# Altium footprint library TO.PcbLib: 8 footprints
Each footprint in its own frame and in the unit in brackets; x right, y up, seen from the top. Pads: shape width x height; smd on the part's side, far side on the other; paste and mask are expansions set on the pad; w line width, h text height; cw(c..) or ccw(c..) is an arc to the next point about the centre after c.
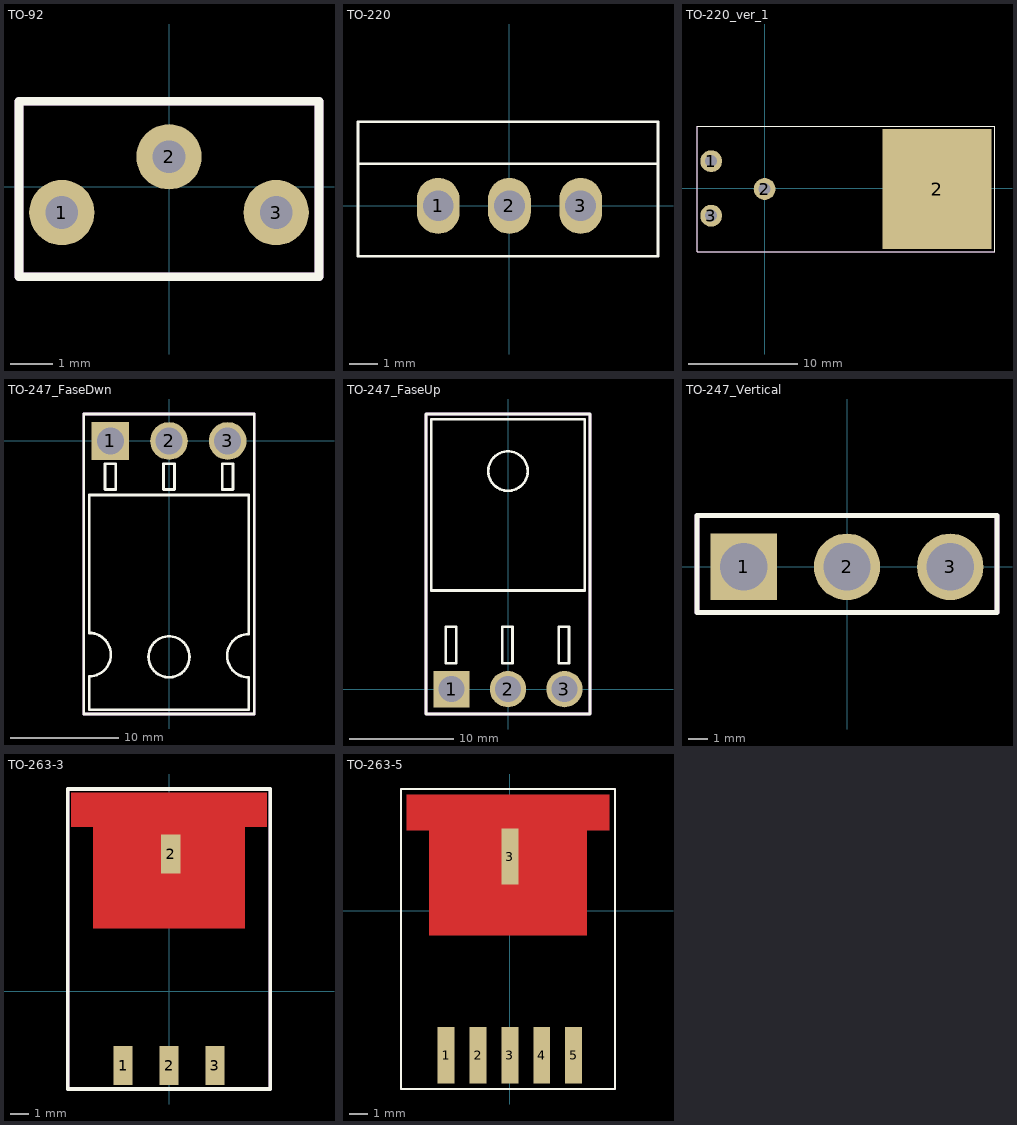
[diagram p0: the footprints below, top view; thin cyan lines are the x and y axes]

## TO-92 [mil]
pads (3):
  round 60 hole 30: 1(-98.43,-23.62) 2(0,27.56) 3(98.43,-23.62)
Top Overlay:
  lines w7.87: -137.8,-82.68 -137.8,78.74 137.8,78.74 137.8,-82.68 -137.8,-82.68
TopAssy:
  lines w7.87: -137.8,-82.68 -137.8,78.74 137.8,78.74 137.8,-82.68 -137.8,-82.68
  text ".Designator" at -19.68,-19.68 h60
3D body "TO-92B.step": height 288.98, standoff -27.56, extent -111.81,-78.74 111.82,70.87

## TO-220 [mm]
pads (3):
  oval 1.524x2 hole 1.1: 1(-2.54,0) 2(0,0) 3(2.54,0)
Top Overlay:
  lines w0.1: -5.4,1.5 5.3,1.5 ; -5.4,-1.8 -5.4,3 5.3,3 5.3,-1.8 -5.4,-1.8
3D body "TO-220_Vert.stp": height 23.26, standoff -2.35, extent -5.335,-1.808 5.335,3.022

## TO-220_ver_1 [mm]
pads (4):
  round 2 hole 1.1: 1(-4.9,2.5) 2(0,-0.05)
  rect 10x11 smd: 2(15.8,-0.05)
  round 2 hole 1.1 paste+0: 3(-4.9,-2.5)
Top Overlay:
  lines w0.1: -6.2,-5.8 21.1,-5.8 21.1,5.7 -6.2,5.7 -6.2,-5.8
TopAssy:
  lines w0.1: -6.2,-5.8 21.1,-5.8 21.1,5.7 -6.2,5.7 -6.2,-5.8
  text ".Designator" at 3.7,-1 h1.52
3D body "btb16_Horizontal.stp": height 4.5, standoff -3.45, extent -5.24,-5.05 19.71,4.95

## TO-247_FaseDwn [mm]
pads (3):
  rect 3.5x3.5 hole 2.5: 1(-5.44,0)
  round 3.5 hole 2.5: 2(0,0) 3(5.44,0)
Top Overlay:
  circle w0.254: c0,-20 r1.9
  lines w0.254: -7.9,-25.3 7.9,-25.3 7.9,2.5 -7.9,2.5 -7.9,-25.3 ; -7.4,-24.9 7.4,-24.9 7.4,-21.912 cw(c7.4,-19.9) 7.4,-17.888 7.4,-5 -7.4,-5 -7.4,-17.788 cw(c-7.4,-19.8) -7.4,-21.812 -7.4,-24.9 ; -5.94,-4.5 -5.94,-2.1 -4.94,-2.1 -4.94,-4.5 -5.94,-4.5 ; -0.5,-4.5 0.5,-4.5 0.5,-2.1 -0.5,-2.1 -0.5,-4.5 ; 4.94,-4.5 5.94,-4.5 5.94,-2.1 4.94,-2.1 4.94,-4.5
TopAssy:
  lines w0.254: -7.9,-25.3 -7.9,2.5 7.9,2.5 7.9,-25.3 -7.9,-25.3
  text ".Designator" at -3.6,-13.1 h1.52
3D body "TO-247_FaseDwn.step": height 5.2, standoff -6.7, extent -7.75,-25.3 7.75,0.1

## TO-247_FaseUp [mm]
pads (3):
  rect 3.5x3.5 hole 2.5: 1(-5.44,0)
  round 3.5 hole 2.5: 2(0,0) 3(5.44,0)
Top Overlay:
  circle w0.254: c0,21 r1.9
  lines w0.254: -7.9,-2.4 7.9,-2.4 7.9,26.5 -7.9,26.5 -7.9,-2.4 ; -7.4,9.5 -7.4,26 7.4,26 7.4,9.5 -7.4,9.5 ; -6,2.5 -6,6 -5,6 -5,2.5 -6,2.5 ; -0.56,2.5 0.44,2.5 0.44,6 -0.56,6 -0.56,2.5 ; 4.88,2.5 5.88,2.5 5.88,6 4.88,6 4.88,2.5
TopAssy:
  lines w0.254: -7.9,-2.4 -7.9,26.5 7.9,26.5 7.9,-2.4 -7.9,-2.4
  text ".Designator" at -3.7,13.2 h1.52
3D body "TO-247_FaceUp.step": height 5.4, standoff -6.6, extent -8,-0.491 7.9,26.491

## TO-247_Vertical [mm]
pads (3):
  rect 3.5x3.5 hole 2.5: 1(-5.44,0)
  round 3.5 hole 2.5: 2(0,0) 3(5.44,0)
Top Overlay:
  lines w0.254: -7.9,-2.4 -7.9,2.7 7.9,2.7 7.9,-2.4 -7.9,-2.4
TopAssy:
  lines w0.254: -7.9,-2.4 7.9,-2.4 7.9,2.7 -7.9,2.7 -7.9,-2.4
  text ".Designator" at -0.4,-0.5 h1.52
3D body "TO-247_Vertical.step": height 26.95, standoff -14.18, extent -7.95,-2.4 7.95,2.7

## TO-263-3 [mil]
pads (4):
  rect 42x85 smd: 1(-100,-161.42) 2(0,-161.42) 2(3.94,299.21) 3(100,-161.42)
Top Layer:
  region: -212.6,358.27 -165.35,358.27 -165.35,137.8 165.35,137.8 165.35,358.27 212.6,358.27 212.6,433.07 -212.6,433.07
Top Overlay:
  lines w7.87: -220.47,-212.6 -220.47,440.94 220.47,440.94 220.47,-212.6 -220.47,-212.6
TopAssy:
  lines w7.87: -220.47,-212.6 -220.47,440.94 220.47,440.94 220.47,-212.6 -220.47,-212.6
  text ".Designator" at -51.18,94.49 h60
3D body "TO263-3.STEP": height 188.3, standoff -0.68, extent -196.84,-196.45 196.86,420.48

## TO-263-5 [mm]
pads (6):
  rect 0.9x3 smd: 1(-3.4,-7.7) 2(-1.7,-7.7) 3(0,-7.7) 3(0,2.9) 4(1.7,-7.7) 5(3.4,-7.7)
Top Layer:
  region: -5.5,4.3 -4.3,4.3 -4.3,-1.3 4.1,-1.3 4.1,4.3 5.3,4.3 5.3,6.2 -5.5,6.2
Top Overlay:
  lines w0.1: -5.8,-9.5 -5.8,6.5 5.6,6.5 5.6,-9.5 -5.8,-9.5
TopAssy:
  lines w0.1: -5.8,-9.5 5.6,-9.5 5.6,6.5 -5.8,6.5 -5.8,-9.5
  text ".Designator" at -2.7,-3.3 h1.52
3D body "TO-263-5.STEP": height 4.56, standoff 0, extent -5.08,-8.427 5.08,5.588